# Altium footprint library ARCOM_freq_synth.PcbLib: 16 footprints
Each footprint in its own frame and in the unit in brackets; x right, y up, seen from the top. Pads: shape width x height; smd on the part's side, far side on the other; paste and mask are expansions set on the pad; w line width, h text height; cw(c..) or ccw(c..) is an arc to the next point about the centre after c.
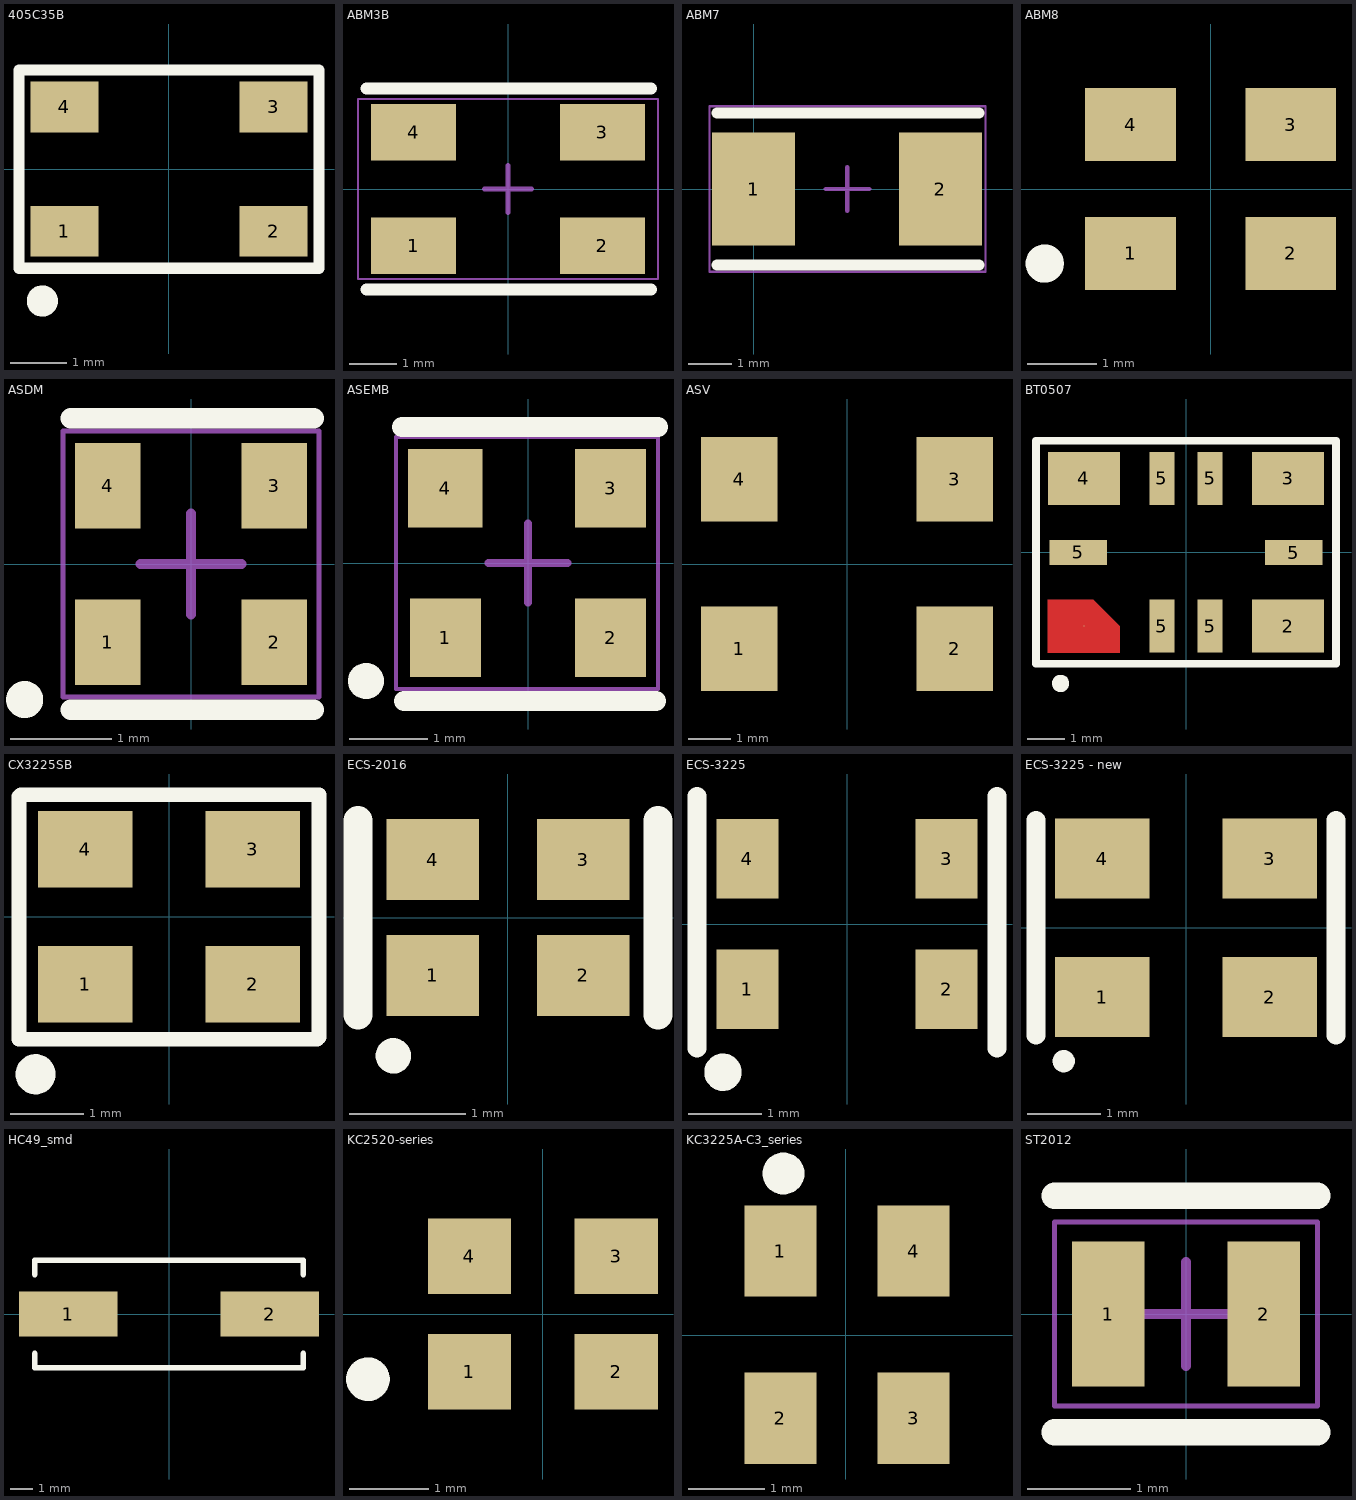
[diagram p0: the footprints below, top view; thin cyan lines are the x and y axes]

## 405C35B [mm]
pads (4):
  rect 1.2x0.9 smd: 1(-1.85,-1.1) 2(1.85,-1.1) 3(1.85,1.1) 4(-1.85,1.1)
Top Overlay:
  circle w0.3: c-2.24,-2.333 r0.125
  lines w0.2: -2.652,-1.753 -2.652,1.753 2.652,1.753 2.652,-1.753 -2.652,-1.753

## ABM3B [mm]
height 1.4
pads (4):
  rect 1.8x1.2 smd: 1(-2,-1.2) 2(2,-1.2) 3(2,1.2) 4(-2,1.2)
Top Overlay:
  lines w0.254: -2.997,-2.131 3.023,-2.131 ; -2.997,2.131 3.023,2.131
M15 Top Assy:
  lines w0.05: -3.175,-1.905 -3.175,1.905 3.175,1.905 3.175,-1.905 -3.175,-1.905
  lines w0.1: -0.5,0 0.5,0 ; 0,-0.5 0,0.5
3D body "User Library-ABM3B.STEP": height 1.11, standoff 0.01, extent -2.5,-1.6 2.5,1.6

## ABM7 [mm]
height 1.4
pads (2):
  rect 1.9x2.6 smd: 1(0,0) 2(4.3,0)
Top Overlay:
  lines w0.254: -0.838,-1.75 5.182,-1.75 ; -0.838,1.75 5.182,1.75
M15 Top Assy:
  lines w0.05: -1.016,-1.905 5.334,-1.905 5.334,1.905 -1.016,1.905 -1.016,-1.905
  lines w0.1: 1.659,0 2.659,0 ; 2.159,-0.5 2.159,0.5
3D body "ABM7.STEP": height 1.42, standoff 0.02, extent -0.838,-1.752 5.156,1.753

## ABM8 [mm]
pads (4):
  rect 1.3x1.05 smd: 1(-1.15,-0.925) 2(1.15,-0.925) 3(1.15,0.925) 4(-1.15,0.925)
Top Overlay:
  circle w0.3: c-2.382,-1.07 r0.125
3D body "ABM8.STEP": height 0.8, standoff 0, extent -1.6,-1.244 1.6,1.245

## ASDM [mm] "2.5mm x 2mm"
height 1.4
pads (4):
  rect 0.65x0.85 smd: 1(-0.825,-0.775) 2(0.825,-0.775) 3(0.825,0.775) 4(-0.825,0.775)
Top Overlay:
  circle w0.254: c-1.651,-1.346 r0.057
  lines w0.203: -1.194,-1.448 1.219,-1.448 ; -1.194,1.448 1.219,1.448
M15 Top Assy:
  lines w0.05: -1.27,-1.321 -1.27,1.321 1.27,1.321 1.27,-1.321 -1.27,-1.321
  lines w0.1: -0.5,0 0.5,0 ; 0,-0.5 0,0.5
3D body "User Library-KXO-V95-1.STEP": height 0.82, standoff 0, extent -1.25,-0.991 1.25,1.009

## ASEMB [mm]
pads (4):
  rect 0.9x1 smd: 1(-1.05,-0.95) 2(1.05,-0.95) 3(1.05,0.95)
  rect 0.95x1 smd: 4(-1.05,0.95)
Top Overlay:
  circle w0.254: c-2.057,-1.499 r0.102
  lines w0.254: -1.6,1.727 1.651,1.727 ; -1.575,-1.753 1.626,-1.753
M15 Top Assy:
  lines w0.05: -1.676,-1.6 -1.676,1.6 1.651,1.6 1.651,-1.6 -1.676,-1.6
  lines w0.1: -0.5,0 0.5,0 ; 0,-0.5 0,0.5
3D body "Abracon ABM10.STEP": height 0.5, standoff 0, extent -1.275,-1.025 1.275,1.025

## ASV [mm]
pads (4):
  rect 1.8x2 smd: 1(-2.54,-2) 2(2.54,-2) 3(2.54,2) 4(-2.54,2)
3D body "ASV.STEP": height 1.84, standoff 0.04, extent -3.5,-2.54 3.5,2.54

## BT0507 [mm]
pads (10):
  round 0.025 smd: 1(-2.7,-1.95)
  rect 1.9x1.4 smd: 2(2.698,-1.949) 3(2.7,1.95) 4(-2.7,1.95)
  rect 1.524x0.66 smd: 5(-2.845,0) 5(2.845,-0.007)
  rect 0.66x1.4 smd: 5(-0.635,-1.95) 5(-0.635,1.95) 5(0.635,-1.95) 5(0.635,1.95)
Top Layer:
  region: -3.65,-2.65 -3.65,-1.25 -2.45,-1.25 -1.75,-1.95 -1.75,-2.65
Top Overlay:
  circle w0.254: c-3.313,-3.465 r0.102
  lines w0.203: -3.962,-2.946 -3.962,2.946 3.962,2.946 3.962,-2.946 -3.962,-2.946
3D body "AST3TQ.STEP": height 2, standoff -0.02, extent -3.5,-2.5 3.5,2.5

## CX3225SB [mm]
pads (4):
  rect 1.3x1.05 smd: 1(-1.15,-0.925) 2(1.15,-0.925) 3(1.15,0.925) 4(-1.15,0.925)
Top Overlay:
  circle w0.3: c-1.829,-2.159 r0.125
  lines w0.2: -2.057,-1.676 2.032,-1.676 2.057,-1.651 2.057,1.676 -2.032,1.676 -2.057,1.651 -2.057,-1.676

## ECS-2016 [mm]
pads (4):
  rect 0.8x0.7 smd: 1(-0.65,-0.5) 2(0.65,-0.5) 3(0.65,0.5) 4(-0.65,0.5)
Top Overlay:
  circle w0.152: c-0.991,-1.194 r0.076
  lines w0.254: -1.295,-0.838 -1.295,0.838 ; 1.296,-0.838 1.296,0.838
3D body "User Library-TG-5006CJ.STEP": height 0.73, standoff 0, extent -1,-0.8 1,0.8

## ECS-3225 [mm]
pads (4):
  rect 0.85x1.09 smd: 1(-1.365,-0.895) 2(1.365,-0.895) 3(1.365,0.895) 4(-1.365,0.895)
Top Overlay:
  circle w0.254: c-1.702,-2.032 r0.13
  lines w0.254: -2.057,-1.702 -2.057,1.753 ; 2.057,-1.702 2.057,1.753
3D body "User Library-Crystal_ECX-32.STEP": height 0.82, standoff 0, extent -1.6,-1.25 1.6,1.25

## ECS-3225 - new [mm]
pads (4):
  rect 1.3x1.1 smd: 1(-1.15,-0.95) 2(1.15,-0.95) 3(1.15,0.95) 4(-1.15,0.95)
Top Overlay:
  circle w0.152: c-1.676,-1.829 r0.076
  lines w0.254: -2.057,-1.473 -2.057,1.473 ; 2.057,-1.473 2.057,1.473
3D body "User Library-Crystal_ECX-32.STEP": height 0.82, standoff 0, extent -1.6,-1.25 1.6,1.25

## HC49_smd [mm]
pads (2):
  rect 4.4x2 smd: 1(-4.5,0) 2(4.5,0)
Top Overlay:
  lines w0.254: -6,-1.765 -6,-2.4 6,-2.4 6,-1.765 ; -6,1.765 -6,2.4 6,2.4 6,1.765

## KC2520-series [mm]
pads (4):
  rect 1.05x0.95 smd: 1(-0.925,-0.725) 2(0.925,-0.725) 3(0.925,0.725) 4(-0.925,0.725)
Top Overlay:
  circle w0.3: c-2.204,-0.821 r0.125

## KC3225A-C3_series [mm]
pads (4):
  rect 0.95x1.2 smd: 1(-0.856,1.108) 2(-0.856,-1.092) 3(0.894,-1.092) 4(0.894,1.108)
Top Overlay:
  circle w0.3: c-0.816,2.128 r0.125

## ST2012 [mm]
height 1.4
pads (2):
  rect 0.7x1.4 smd: 1(-0.75,0) 2(0.75,0)
Top Overlay:
  lines w0.254: -1.27,-1.143 1.27,-1.143 ; -1.27,1.143 1.27,1.143
M15 Top Assy:
  lines w0.05: -1.27,-0.889 -1.27,0.889 1.27,0.889 1.27,-0.889 -1.27,-0.889
  lines w0.1: -0.5,0 0.5,0 ; 0,-0.5 0,0.5
3D body "ABS06.STEP": height 0.61, standoff 0, extent -1.011,-0.597 0.996,0.597